# Altium footprint library DXPpcb.PCBLIB: 575 footprints (part 35 of 36)
Each footprint in its own frame and in the unit in brackets; x right, y up, seen from the top. Pads: shape width x height; smd on the part's side, far side on the other; paste and mask are expansions set on the pad; w line width, h text height; cw(c..) or ccw(c..) is an arc to the next point about the centre after c.
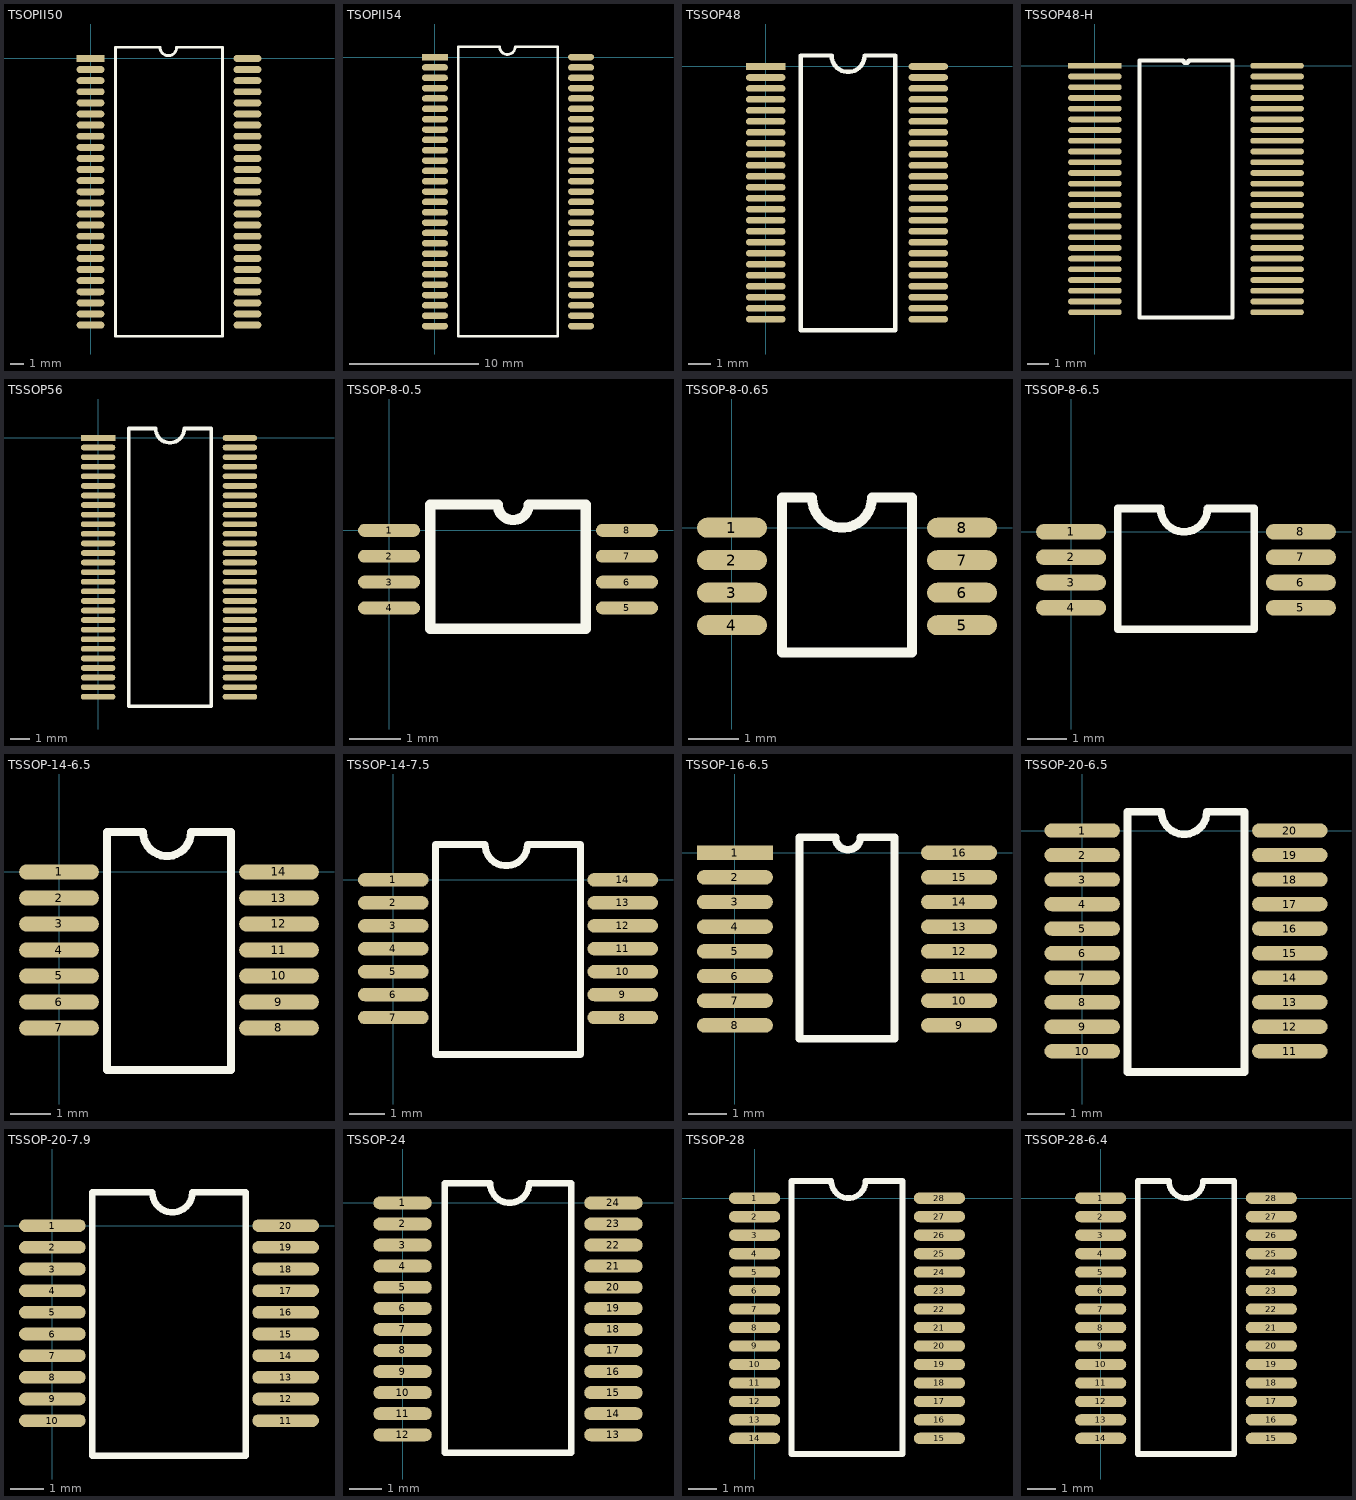
[diagram p34: the footprints below, top view; thin cyan lines are the x and y axes]

## TSOPII50 [mm]
pads (50):
  rect 2x0.5 smd: 1(0,0)
  oval 2x0.5 smd: 2(0,-0.8) 3(0,-1.6) 4(0,-2.4) 5(0,-3.2) 6(0,-4) 7(0,-4.8) 8(0,-5.6) 9(0,-6.4) 10(0,-7.2) 11(0,-8) 12(0,-8.8) 13(0,-9.6) 14(0,-10.4) 15(0,-11.2) 16(0,-12) 17(0,-12.8) 18(0,-13.6) 19(0,-14.4) 20(0,-15.2) 21(0,-16) 22(0,-16.8) 23(0,-17.6) 24(0,-18.4) 25(0,-19.2) 26(11.3,-19.2) 27(11.3,-18.4) 28(11.3,-17.6) 29(11.3,-16.8) 30(11.3,-16) 31(11.3,-15.2) 32(11.3,-14.4) 33(11.3,-13.6) 34(11.3,-12.8) 35(11.3,-12) 36(11.3,-11.2) 37(11.3,-10.4) 38(11.3,-9.6) 39(11.3,-8.8) 40(11.3,-8) 41(11.3,-7.2) 42(11.3,-6.4) 43(11.3,-5.6) 44(11.3,-4.8) 45(11.3,-4) 46(11.3,-3.2) 47(11.3,-2.4) 48(11.3,-1.6) 49(11.3,-0.8) 50(11.3,0)
TopOverlay:
  lines w0.2: 1.8,-20 9.5,-20 9.5,0.8 6.2,0.8 cw(c5.6,0.8) 5,0.8 1.8,0.8 1.8,-20

## TSOPII54 [mm]
pads (54):
  rect 2x0.5 smd: 1(0,0)
  oval 2x0.5 smd: 2(0,-0.8) 3(0,-1.6) 4(0,-2.4) 5(0,-3.2) 6(0,-4) 7(0,-4.8) 8(0,-5.6) 9(0,-6.4) 10(0,-7.2) 11(0,-8) 12(0,-8.8) 13(0,-9.6) 14(0,-10.4) 15(0,-11.2) 16(0,-12) 17(0,-12.8) 18(0,-13.6) 19(0,-14.4) 20(0,-15.2) 21(0,-16) 22(0,-16.8) 23(0,-17.6) 24(0,-18.4) 25(0,-19.2) 26(0,-20) 27(0,-20.8) 28(11.3,-20.8) 29(11.3,-20) 30(11.3,-19.2) 31(11.3,-18.4) 32(11.3,-17.6) 33(11.3,-16.8) 34(11.3,-16) 35(11.3,-15.2) 36(11.3,-14.4) 37(11.3,-13.6) 38(11.3,-12.8) 39(11.3,-12) 40(11.3,-11.2) 41(11.3,-10.4) 42(11.3,-9.6) 43(11.3,-8.8) 44(11.3,-8) 45(11.3,-7.2) 46(11.3,-6.4) 47(11.3,-5.6) 48(11.3,-4.8) 49(11.3,-4) 50(11.3,-3.2) 51(11.3,-2.4) 52(11.3,-1.6) 53(11.3,-0.8) 54(11.3,0)
TopOverlay:
  lines w0.2: 1.8,-21.6 9.5,-21.6 9.5,0.8 6.2,0.8 cw(c5.6,0.8) 5,0.8 1.8,0.8 1.8,-21.6

## TSSOP48 [mm]
pads (48):
  rect 1.8x0.3 smd: 1(0,0)
  oval 1.8x0.3 smd: 2(0,-0.5) 3(0,-1) 4(0,-1.5) 5(0,-2) 6(0,-2.5) 7(0,-3) 8(0,-3.5) 9(0,-4) 10(0,-4.5) 11(0,-5) 12(0,-5.5) 13(0,-6) 14(0,-6.5) 15(0,-7) 16(0,-7.5) 17(0,-8) 18(0,-8.5) 19(0,-9) 20(0,-9.5) 21(0,-10) 22(0,-10.5) 23(0,-11) 24(0,-11.5) 25(7.4,-11.5) 26(7.4,-11) 27(7.4,-10.5) 28(7.4,-10) 29(7.4,-9.5) 30(7.4,-9) 31(7.4,-8.5) 32(7.4,-8) 33(7.4,-7.5) 34(7.4,-7) 35(7.4,-6.5) 36(7.4,-6) 37(7.4,-5.5) 38(7.4,-5) 39(7.4,-4.5) 40(7.4,-4) 41(7.4,-3.5) 42(7.4,-3) 43(7.4,-2.5) 44(7.4,-2) 45(7.4,-1.5) 46(7.4,-1) 47(7.4,-0.5) 48(7.4,0)
TopOverlay:
  lines w0.2: 1.6,-12 1.6,0.5 3,0.5 ccw(c3.75,0.5) 4.5,0.5 5.9,0.5 5.9,-12 1.6,-12

## TSSOP48-H [mm]
pads (48):
  rect 2.5x0.27 smd: 1(0,0)
  oval 2.5x0.27 smd: 2(0,-0.5) 3(0,-1) 4(0,-1.5) 5(0,-2) 6(0,-2.5) 7(0,-3) 8(0,-3.5) 9(0,-4) 10(0,-4.5) 11(0,-5) 12(0,-5.5) 13(0,-6) 14(0,-6.5) 15(0,-7) 16(0,-7.5) 17(0,-8) 18(0,-8.5) 19(0,-9) 20(0,-9.5) 21(0,-10) 22(0,-10.5) 23(0,-11) 24(0,-11.5) 25(8.5,-11.5) 26(8.5,-11) 27(8.5,-10.5) 28(8.5,-10) 29(8.5,-9.5) 30(8.5,-9) 31(8.5,-8.5) 32(8.5,-8) 33(8.5,-7.5) 34(8.5,-7) 35(8.5,-6.5) 36(8.5,-6) 37(8.5,-5.5) 38(8.5,-5) 39(8.5,-4.5) 40(8.5,-4) 41(8.5,-3.5) 42(8.5,-3) 43(8.5,-2.5) 44(8.5,-2) 45(8.5,-1.5) 46(8.5,-1) 47(8.5,-0.5) 48(8.5,0)
TopOverlay:
  lines w0.2: 2.085,-11.75 6.415,-11.75 6.415,0.25 4.375,0.25 cw(c4.25,0.25) 4.125,0.25 2.085,0.25 2.085,-11.75

## TSSOP56 [mm]
pads (56):
  rect 1.8x0.3 smd: 1(0,0)
  oval 1.8x0.3 smd: 2(0,-0.5) 3(0,-1) 4(0,-1.5) 5(0,-2) 6(0,-2.5) 7(0,-3) 8(0,-3.5) 9(0,-4) 10(0,-4.5) 11(0,-5) 12(0,-5.5) 13(0,-6) 14(0,-6.5) 15(0,-7) 16(0,-7.5) 17(0,-8) 18(0,-8.5) 19(0,-9) 20(0,-9.5) 21(0,-10) 22(0,-10.5) 23(0,-11) 24(0,-11.5) 25(0,-12) 26(0,-12.5) 27(0,-13) 28(0,-13.5) 29(7.4,-13.5) 30(7.4,-13) 31(7.4,-12.5) 32(7.4,-12) 33(7.4,-11.5) 34(7.4,-11) 35(7.4,-10.5) 36(7.4,-10) 37(7.4,-9.5) 38(7.4,-9) 39(7.4,-8.5) 40(7.4,-8) 41(7.4,-7.5) 42(7.4,-7) 43(7.4,-6.5) 44(7.4,-6) 45(7.4,-5.5) 46(7.4,-5) 47(7.4,-4.5) 48(7.4,-4) 49(7.4,-3.5) 50(7.4,-3) 51(7.4,-2.5) 52(7.4,-2) 53(7.4,-1.5) 54(7.4,-1) 55(7.4,-0.5) 56(7.4,0)
TopOverlay:
  lines w0.2: 1.6,-14 5.9,-14 5.9,0.5 4.5,0.5 cw(c3.75,0.5) 3,0.5 1.6,0.5 1.6,-14

## TSSOP-8-0.5 [mm]
pads (8):
  oval 1.2x0.25 smd: 1(0,0) 2(0,-0.5) 3(0,-1) 4(0,-1.5) 5(4.6,-1.5) 6(4.6,-1) 7(4.6,-0.5) 8(4.6,0)
TopOverlay:
  lines w0.2: 0.8,-1.9 0.8,0.5 2.1,0.5 ccw(c2.4,0.5) 2.7,0.5 3.8,0.5 3.8,-1.9 0.8,-1.9

## TSSOP-8-0.65 [mm]
pads (8):
  oval 1.4x0.4 smd: 1(0,0) 2(0,-0.65) 3(0,-1.3) 4(0,-1.95) 5(4.6,-1.95) 6(4.6,-1.3) 7(4.6,-0.65) 8(4.6,0)
TopOverlay:
  lines w0.2: 1,-2.5 1,0.6 1.6,0.6 ccw(c2.2,0.6) 2.8,0.6 3.6,0.6 3.6,-2.5 1,-2.5

## TSSOP-8-6.5 [mm]
pads (8):
  oval 1.8x0.4 smd: 1(0,0) 2(0,-0.65) 3(0,-1.3) 4(0,-1.95) 5(5.9,-1.95) 6(5.9,-1.3) 7(5.9,-0.65) 8(5.9,0)
TopOverlay:
  lines w0.2: 1.2,-2.5 4.7,-2.5 4.7,0.6 3.5,0.6 cw(c2.9,0.6) 2.3,0.6 1.2,0.6 1.2,-2.5

## TSSOP-14-6.5 [mm]
pads (14):
  oval 2x0.38 smd: 1(0,0) 2(0,-0.65) 3(0,-1.3) 4(0,-1.95) 5(0,-2.6) 6(0,-3.25) 7(0,-3.9) 8(5.5,-3.9) 9(5.5,-3.25) 10(5.5,-2.6) 11(5.5,-1.95) 12(5.5,-1.3) 13(5.5,-0.65) 14(5.5,0)
TopOverlay:
  lines w0.2: 1.2,-4.95 1.2,1 2.1,1 ccw(c2.7,1) 3.3,1 4.3,1 4.3,-4.95 1.2,-4.95

## TSSOP-14-7.5 [mm]
pads (14):
  oval 2x0.38 smd: 1(0,0) 2(0,-0.65) 3(0,-1.3) 4(0,-1.95) 5(0,-2.6) 6(0,-3.25) 7(0,-3.9) 8(6.5,-3.9) 9(6.5,-3.25) 10(6.5,-2.6) 11(6.5,-1.95) 12(6.5,-1.3) 13(6.5,-0.65) 14(6.5,0)
TopOverlay:
  lines w0.2: 1.2,-4.95 1.2,1 2.6,1 ccw(c3.2,1) 3.8,1 5.3,1 5.3,-4.95 1.2,-4.95

## TSSOP-16-6.5 [mm]
pads (16):
  rect 2x0.38 smd: 1(0,0)
  oval 2x0.38 smd: 2(0,-0.65) 3(0,-1.3) 4(0,-1.95) 5(0,-2.6) 6(0,-3.25) 7(0,-3.9) 8(0,-4.55) 9(5.9,-4.55) 10(5.9,-3.9) 11(5.9,-3.25) 12(5.9,-2.6) 13(5.9,-1.95) 14(5.9,-1.3) 15(5.9,-0.65) 16(5.9,0)
TopOverlay:
  lines w0.2: 1.7,-4.9 4.2,-4.9 4.2,0.4 3.3,0.4 cw(c2.974,0.4) 2.647,0.4 1.7,0.4 1.7,-4.9

## TSSOP-20-6.5 [mm]
pads (20):
  oval 2x0.38 smd: 1(0,0) 2(0,-0.65) 3(0,-1.3) 4(0,-1.95) 5(0,-2.6) 6(0,-3.25) 7(0,-3.9) 8(0,-4.55) 9(0,-5.2) 10(0,-5.85) 11(5.5,-5.85) 12(5.5,-5.2) 13(5.5,-4.55) 14(5.5,-3.9) 15(5.5,-3.25) 16(5.5,-2.6) 17(5.5,-1.95) 18(5.5,-1.3) 19(5.5,-0.65) 20(5.5,0)
TopOverlay:
  lines w0.2: 1.2,-6.4 4.3,-6.4 4.3,0.5 3.3,0.5 cw(c2.7,0.5) 2.1,0.5 1.2,0.5 1.2,-6.4

## TSSOP-20-7.9 [mm]
pads (20):
  oval 2x0.38 smd: 1(0,0) 2(0,-0.65) 3(0,-1.3) 4(0,-1.95) 5(0,-2.6) 6(0,-3.25) 7(0,-3.9) 8(0,-4.55) 9(0,-5.2) 10(0,-5.85) 11(7,-5.85) 12(7,-5.2) 13(7,-4.55) 14(7,-3.9) 15(7,-3.25) 16(7,-2.6) 17(7,-1.95) 18(7,-1.3) 19(7,-0.65) 20(7,0)
TopOverlay:
  lines w0.2: 1.2,-6.9 1.2,1 3,1 ccw(c3.6,1) 4.2,1 5.8,1 5.8,-6.9 1.2,-6.9

## TSSOP-24 [mm]
pads (24):
  oval 1.8x0.4 smd: 1(0,0) 2(0,-0.65) 3(0,-1.3) 4(0,-1.95) 5(0,-2.6) 6(0,-3.25) 7(0,-3.9) 8(0,-4.55) 9(0,-5.2) 10(0,-5.85) 11(0,-6.5) 12(0,-7.15) 13(6.5,-7.15) 14(6.5,-6.5) 15(6.5,-5.85) 16(6.5,-5.2) 17(6.5,-4.55) 18(6.5,-3.9) 19(6.5,-3.25) 20(6.5,-2.6) 21(6.5,-1.95) 22(6.5,-1.3) 23(6.5,-0.65) 24(6.5,0)
TopOverlay:
  lines w0.2: 1.3,-7.7 1.3,0.6 2.7,0.6 ccw(c3.3,0.6) 3.9,0.6 5.2,0.6 5.2,-7.7 1.3,-7.7

## TSSOP-28 [mm]
pads (28):
  oval 1.8x0.4 smd: 1(0,0) 2(0,-0.65) 3(0,-1.3) 4(0,-1.95) 5(0,-2.6) 6(0,-3.25) 7(0,-3.9) 8(0,-4.55) 9(0,-5.2) 10(0,-5.85) 11(0,-6.5) 12(0,-7.15) 13(0,-7.8) 14(0,-8.45) 15(6.5,-8.45) 16(6.5,-7.8) 17(6.5,-7.15) 18(6.5,-6.5) 19(6.5,-5.85) 20(6.5,-5.2) 21(6.5,-4.55) 22(6.5,-3.9) 23(6.5,-3.25) 24(6.5,-2.6) 25(6.5,-1.95) 26(6.5,-1.3) 27(6.5,-0.65) 28(6.5,0)
TopOverlay:
  lines w0.2: 1.3,-9 5.2,-9 5.2,0.6 3.9,0.6 cw(c3.3,0.6) 2.7,0.6 1.3,0.6 1.3,-9

## TSSOP-28-6.4 [mm]
pads (28):
  oval 1.8x0.4 smd: 1(0,0) 2(0,-0.65) 3(0,-1.3) 4(0,-1.95) 5(0,-2.6) 6(0,-3.25) 7(0,-3.9) 8(0,-4.55) 9(0,-5.2) 10(0,-5.85) 11(0,-6.5) 12(0,-7.15) 13(0,-7.8) 14(0,-8.45) 15(6,-8.45) 16(6,-7.8) 17(6,-7.15) 18(6,-6.5) 19(6,-5.85) 20(6,-5.2) 21(6,-4.55) 22(6,-3.9) 23(6,-3.25) 24(6,-2.6) 25(6,-1.95) 26(6,-1.3) 27(6,-0.65) 28(6,0)
TopOverlay:
  lines w0.2: 1.3,-9 4.7,-9 4.7,0.6 3.6,0.6 cw(c3,0.6) 2.4,0.6 1.3,0.6 1.3,-9